# Altium schematic symbol library SLP471M160A3P3.SchLib: 1 symbol
Pins are listed as number, name and electrical type; pins without a type are passive.

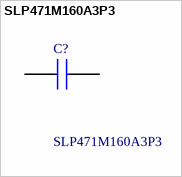
[diagram p0: symbol SLP471M160A3P3]

## SLP471M160A3P3
designator C?
Cornell-Dubilier 470uF 160 V dc Aluminium Electrolytic Capacitor A3, SLP Series 3000h 22 Dia. x 30mm; Manufacturer_Name: Cornell Dubilier; Geometry.Height: 32mm; Mouser Part Number: 598-SLP471M160A3P3; Mouser Price/Stock: https://www.mouser.com/Search/Refine.aspx?Keyword=598-SLP471M160A3P3; Manufacturer_Part_Number: SLP471M160A3P3; Datasheet Link: https://componentsearchengine.com/Datasheets/1/SLP471M160A3P3.pdf
footprint CAPPRD1000W190D2250H3200
pins: 1 +, 2 -